# Altium footprint library ZX62DB5PA830.PcbLib: 1 footprints
Each footprint in its own frame and in the unit in brackets; x right, y up, seen from the top. Pads: shape width x height; smd on the part's side, far side on the other; paste and mask are expansions set on the pad; w line width, h text height; cw(c..) or ccw(c..) is an arc to the next point about the centre after c.
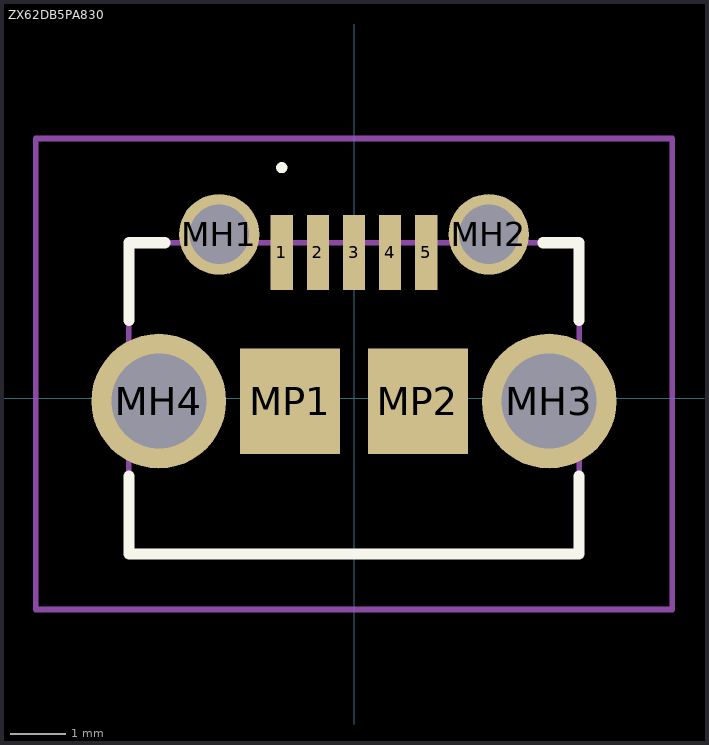
[diagram p0: the footprint, top view; thin cyan lines are the x and y axes]

## ZX62DB5PA830 [mm]
pads (11):
  rect 0.4x1.35 smd: 1(-1.3,2.625) 2(-0.65,2.625) 3(0,2.625) 4(0.65,2.625) 5(1.3,2.625)
  round 1.45 hole 1.07: MH1(-2.425,2.95) MH2(2.425,2.95)
  round 2.425 hole 1.71: MH3(3.512,-0.05) MH4(-3.512,-0.05)
  rect 1.8x1.9 smd: MP1(-1.15,-0.05) MP2(1.15,-0.05)
Top Overlay:
  lines w0.1: -1.3,4.1 cw(c-1.3,4.15) -1.3,4.2 cw(c-1.3,4.15) -1.3,4.1
  lines w0.2: -4.05,-1.4 -4.05,-2.8 4.05,-2.8 4.05,-1.4 ; -4.05,1.4 -4.05,2.8 -3.4,2.8 ; 3.4,2.8 4.05,2.8 4.05,1.4
Mechanical 15:
  lines w0.1: -4.05,-2.8 4.05,-2.8 4.05,2.8 -4.05,2.8 -4.05,-2.8
Mechanical 20:
  lines w0.1: -5.725,-3.8 5.725,-3.8 5.725,4.675 -5.725,4.675 -5.725,-3.8
3D body "ZX62D-B-5PA8_30_.stp": height 2.79, standoff -0.69, extent -4.047,-2.667 4.047,3.133